# Altium footprint library Nimb_Ring_2_0.PcbLib: 49 footprints (part 2 of 4)
Each footprint in its own frame and in the unit in brackets; x right, y up, seen from the top. Pads: shape width x height; smd on the part's side, far side on the other; paste and mask are expansions set on the pad; w line width, h text height; cw(c..) or ccw(c..) is an arc to the next point about the centre after c.
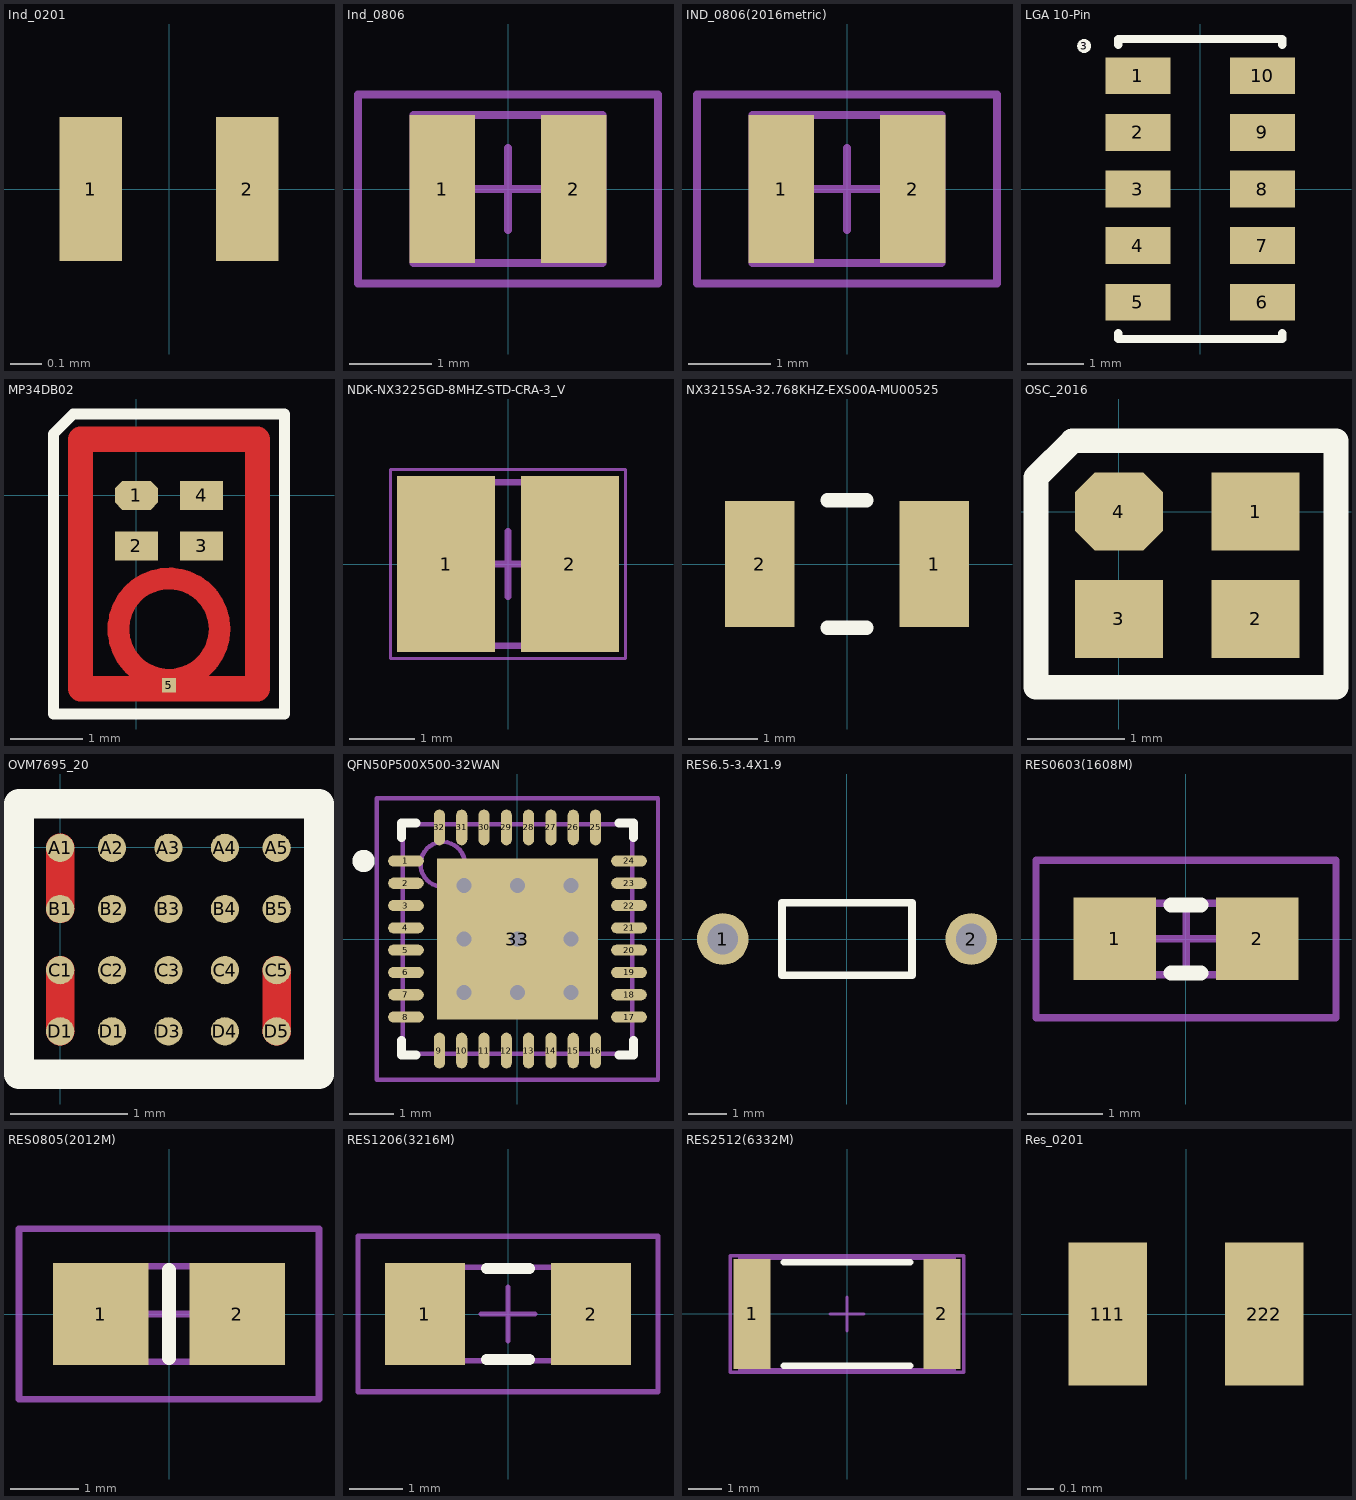
[diagram p1: the footprints below, top view; thin cyan lines are the x and y axes]

## Ind_0201 [mm]
height 0.46
pads (2):
  rect 0.2x0.46 smd: 1(-0.25,0) 2(0.25,0)
3D body: height 0.25, standoff 0, extent -0.3,-0.15 0.3,0.15

## Ind_0806 [mm] "Chip Inductor, 2-Leads, Body 2.1x1.6mm, IPC Medium Density"
height 1
pads (2):
  rect 0.8x1.8 smd: 1(-0.8,0) 2(0.8,0)
Mechanical 13:
  lines w0.1: -1.15,-0.9 -1.15,0.9 1.15,0.9 1.15,-0.9 -1.15,-0.9
Mechanical 15:
  lines w0.1: -0.5,0 0.5,0 ; 0,-0.5 0,0.5 ; -1.825,-1.15 -1.825,1.15 1.825,1.15 1.825,-1.15 -1.825,-1.15
3D body "WE-PMI_0806.stp": height 1, standoff 0, extent -1,-0.8 1,0.8

## IND_0806(2016metric) [mm] "Chip Inductor, 2-Leads, Body 2.1x1.6mm, IPC Medium Density"
height 1
pads (2):
  rect 0.8x1.8 smd: 1(-0.8,0) 2(0.8,0)
Mechanical 13:
  lines w0.1: -1.15,-0.9 -1.15,0.9 1.15,0.9 1.15,-0.9 -1.15,-0.9
Mechanical 15:
  lines w0.1: -0.5,0 0.5,0 ; 0,-0.5 0,0.5 ; -1.825,-1.15 -1.825,1.15 1.825,1.15 1.825,-1.15 -1.825,-1.15
3D body "WE-PMI_0806.stp": height 1, standoff 0, extent -1,-0.8 1,0.8

## LGA 10-Pin [mm] "10-lead 2.9x4.9 mm"
height 1.2
pads (11):
  rect 1.15x0.65 smd: 1(-1.1,2) 2(-1.1,1) 3(-1.1,0) 4(-1.1,-1) 5(-1.1,-2) 6(1.1,-2) 7(1.1,-1) 8(1.1,0) 9(1.1,1) 10(1.1,2)
  round 0.25 on Top Overlay: 3(-2.05,2.525)
Top Overlay:
  lines w0.15: -1.45,-2.55 -1.45,-2.65 1.45,-2.65 1.45,-2.55 ; -1.45,2.55 -1.45,2.65 1.45,2.65 1.45,2.55

## MP34DB02 [mm] "4.1mm x 3.1mm Audio mems sensor"
height 1.1
pads (5):
  oct 0.6x0.4 smd: 1(0,0)
  rect 0.6x0.4 smd: 2(0,-0.7) 3(0.9,-0.7) 4(0.9,0)
  rect 0.2x0.2 smd: 5(0.45,-2.625)
Top Layer:
  circle w0.3: c0.45,-1.85 r0.7
  lines w0.35: -0.775,-2.675 -0.775,0.775 1.675,0.775 1.675,-2.675 -0.775,-2.675
Top Overlay:
  lines w0.15: -1.15,-3.025 2.05,-3.025 2.05,1.125 -0.875,1.125 -1.15,0.85 -1.15,-3.025
3D body: height 1, standoff 0, extent -1.05,-2.975 1.95,1.025

## NDK-NX3225GD-8MHZ-STD-CRA-3_V [mm] "SMD, 2-Leads, Body 3.2x2.5mm"
height 1
pads (2):
  rect 1.5x2.7 smd: 1(-0.95,0) 2(0.95,0)
Mechanical 13:
  lines w0.1: -1.6,-1.25 1.6,-1.25 1.6,1.25 -1.6,1.25 -1.6,-1.25
Mechanical 15:
  lines w0.05: -1.8,-1.45 -1.8,1.45 1.8,1.45 1.8,-1.45 -1.8,-1.45
  lines w0.1: -0.5,0 0.5,0 ; 0,-0.5 0,0.5
3D body: height 1, standoff 0, extent -1.599,-1.249 1.599,1.249

## NX3215SA-32.768KHZ-EXS00A-MU00525 [mm]
pads (2):
  rect 1x1.8 smd: 1(1.25,0) 2(-1.25,0)
Top Overlay:
  lines w0.203: -0.279,-0.914 0.279,-0.914 ; -0.279,0.914 0.279,0.914
3D body "ABS07-120.STEP": height 0.89, standoff 0, extent -1.577,-0.752 1.628,0.752

## OSC_2016 [mm] "Quarz"
height 0.45
pads (4):
  rect 0.9x0.8 smd: 1(1.4,0) 2(1.4,-1.1) 3(0,-1.1)
  oct 0.9x0.8 smd: 4(0,0)
Top Overlay:
  lines w0.254: -0.85,-1.8 2.225,-1.8 2.225,0.725 -0.475,0.725 -0.85,0.35 -0.85,-1.8
3D body: height 0.45, standoff 0, extent -0.325,-1.375 1.675,0.225

## OVM7695_20 [mm] "OVM7695_camera(640x480)"
height 2.21
pads (20):
  round 0.24 smd: A1(0,-0.005) A2(0.44,-0.005) A3(0.92,-0.005) A4(1.4,-0.005) A5(1.84,-0.005) B1(0,-0.525) B2(0.44,-0.525) B3(0.92,-0.525) B4(1.4,-0.525) B5(1.84,-0.525) C1(0,-1.045) C2(0.44,-1.045) C3(0.92,-1.045) C4(1.4,-1.045) C5(1.84,-1.045) D1(0,-1.565) D1(0.44,-1.565) D3(0.92,-1.565) D4(1.4,-1.565) D5(1.84,-1.565)
Top Layer:
  lines w0.24: 0,-1.565 0,-1.045 ; 0,-0.525 0,-0.005 ; 1.84,-1.565 1.84,-1.045
Top Overlay:
  lines w0.254: -0.35,-1.93 -0.35,0.37 2.2,0.37 2.2,-1.93 -0.35,-1.93
3D body "OVM7695_3D.stp": height 2.2, standoff 0, extent -0.254,-1.991 2.096,0.429

## QFN50P500X500-32WAN [mm] "QFN, 32-Leads, Body 5x5mm, Pitch 0.5mm, IPC Medium Density"
height 0.8
pads (33):
  oval 0.8x0.25 smd: 1(-2.5,1.75) 2(-2.5,1.25) 3(-2.5,0.75) 4(-2.5,0.25) 5(-2.5,-0.25) 6(-2.5,-0.75) 7(-2.5,-1.25) 8(-2.5,-1.75) 17(2.5,-1.75) 18(2.5,-1.25) 19(2.5,-0.75) 20(2.5,-0.25) 21(2.5,0.25) 22(2.5,0.75) 23(2.5,1.25) 24(2.5,1.75)
  oval 0.25x0.8 smd: 9(-1.75,-2.5) 10(-1.25,-2.5) 11(-0.75,-2.5) 12(-0.25,-2.5) 13(0.25,-2.5) 14(0.75,-2.5) 15(1.25,-2.5) 16(1.75,-2.5) 25(1.75,2.5) 26(1.25,2.5) 27(0.75,2.5) 28(0.25,2.5) 29(-0.25,2.5) 30(-0.75,2.5) 31(-1.25,2.5) 32(-1.75,2.5)
  rect 3.6x3.6 smd: 33(0,0)
via -1.2,1.2 diameter 0.66 hole 0.33
via 0,1.2 diameter 0.66 hole 0.33
via 1.2,1.2 diameter 0.66 hole 0.33
via -1.2,0 diameter 0.66 hole 0.33
via 0,0 diameter 0.66 hole 0.33
via 1.2,0 diameter 0.66 hole 0.33
via -1.2,-1.2 diameter 0.66 hole 0.33
via 0,-1.2 diameter 0.66 hole 0.33
via 1.2,-1.2 diameter 0.66 hole 0.33
Top Overlay:
  circle w0.25: c-3.45,1.75 r0.125
  lines w0.2: -2.6,-2.275 -2.6,-2.6 -2.275,-2.6 ; -2.6,2.275 -2.6,2.6 -2.275,2.6 ; 2.275,-2.6 2.6,-2.6 2.6,-2.275 ; 2.275,2.6 2.6,2.6 2.6,2.275
Mechanical 13:
  circle w0.1: c-1.675,1.675 r0.5
  lines w0.1: -2.575,-2.575 -2.575,2.575 2.575,2.575 2.575,-2.575 -2.575,-2.575
Mechanical 15:
  lines w0.1: -0.5,0 0.5,0 ; 0,-0.5 0,0.5 ; -3.15,-3.15 -3.15,3.15 3.15,3.15 3.15,-3.15 -3.15,-3.15
3D body: height 0.8, standoff 0, extent -2.575,-2.575 2.575,2.575

## RES6.5-3.4X1.9 [mm] "Resistor, Axial; Body 3.4 x 1.9 mm (LxDia. max), Lead Dia. 0.5 mm (max)"
height 1.9
pads (2):
  round 1.35 hole 0.8: 1(-3.25,0) 2(3.25,0)
Top Overlay:
  lines w0.2: -1.7,-0.95 -1.7,0.95 1.7,0.95 1.7,-0.95 -1.7,-0.95

## RES0603(1608M) [mm] "Chip Resistor, Body 1.6x0.8mm, IPC Low Density"
height 0.6
pads (2):
  rect 1.1x1.1 smd: 1(-0.95,0) 2(0.95,0)
Top Overlay:
  lines w0.2: -0.2,-0.45 0.2,-0.45 ; -0.2,0.45 0.2,0.45
Mechanical 13:
  lines w0.1: -0.85,-0.475 -0.85,0.475 0.85,0.475 0.85,-0.475 -0.85,-0.475
Mechanical 15:
  lines w0.1: -0.475,0 0.475,0 ; 0,-0.475 0,0.475 ; -2,-1.05 -2,1.05 2,1.05 2,-1.05 -2,-1.05
3D body: height 0.6, standoff 0, extent -0.85,-0.475 0.85,0.475

## RES0805(2012M) [mm] "Chip Resistor, Body 2.0x1.3mm, IPC Low Density"
height 0.65
pads (2):
  rect 1.4x1.5 smd: 1(-1,0) 2(1,0)
Top Overlay:
  lines w0.2: 0,-0.65 0,0.65
Mechanical 13:
  lines w0.1: -1.075,-0.7 -1.075,0.7 1.075,0.7 1.075,-0.7 -1.075,-0.7
Mechanical 15:
  lines w0.1: -0.5,0 0.5,0 ; 0,-0.5 0,0.5 ; -2.2,-1.25 -2.2,1.25 2.2,1.25 2.2,-1.25 -2.2,-1.25
3D body: height 0.65, standoff 0, extent -1.075,-0.7 1.075,0.7

## RES1206(3216M) [mm] "Chip Resistor, Body 3.2x1.6mm, IPC Low Density"
height 0.71
pads (2):
  rect 1.5x1.9 smd: 1(-1.55,0) 2(1.55,0)
Top Overlay:
  lines w0.2: -0.4,-0.85 0.4,-0.85 ; -0.4,0.85 0.4,0.85
Mechanical 13:
  lines w0.1: -1.675,-0.875 -1.675,0.875 1.675,0.875 1.675,-0.875 -1.675,-0.875
Mechanical 15:
  lines w0.1: -0.5,0 0.5,0 ; 0,-0.5 0,0.5 ; -2.8,-1.45 -2.8,1.45 2.8,1.45 2.8,-1.45 -2.8,-1.45
3D body: height 0.71, standoff 0, extent -1.675,-0.875 1.675,0.875

## RES2512(6332M) [mm] "Chip Resistor, Body 6.3x3.2mm, IPC High Density"
height 0.71
pads (2):
  rect 1.1x3.3 smd: 1(-2.85,0) 2(2.85,0)
Top Overlay:
  lines w0.2: -1.9,-1.55 1.9,-1.55 ; -1.9,1.55 1.9,1.55
Mechanical 13:
  lines w0.1: -3.225,-1.675 -3.225,1.675 3.225,1.675 3.225,-1.675 -3.225,-1.675
Mechanical 15:
  lines w0.1: -0.5,0 0.5,0 ; 0,-0.5 0,0.5 ; -3.5,-1.75 -3.5,1.75 3.5,1.75 3.5,-1.75 -3.5,-1.75
3D body: height 0.71, standoff 0, extent -3.225,-1.675 3.225,1.675

## Res_0201 [mm]
height 0.23
pads (2):
  rect 0.3x0.55 smd: 111(-0.3,0) 222(0.3,0)
3D body: height 0.25, standoff 0, extent -0.3,-0.15 0.3,0.15